# EAGLE library part PIC12F1840 (library PIC12F1840)
Microchip PIC12F1840
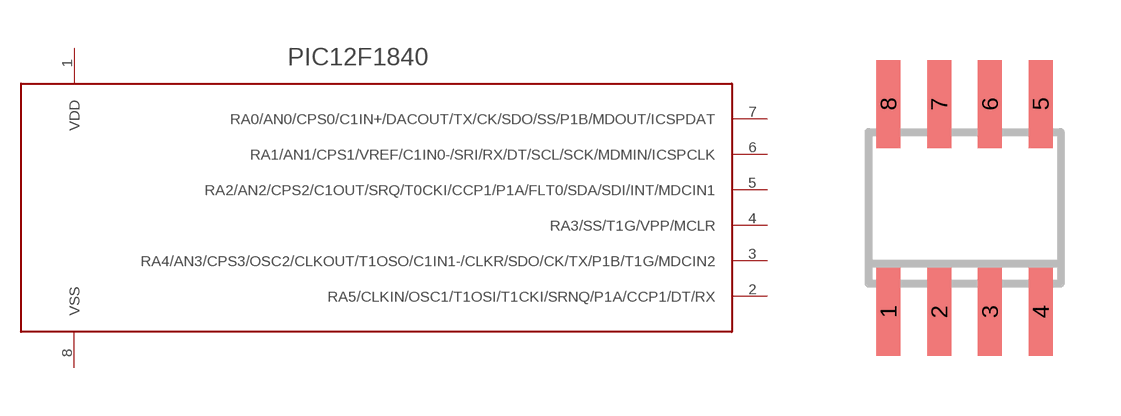
[diagram p0: symbol with the pads of SO8; footprint SO8]

Designator prefix -

## PIC12F1840  [SO8]
1  VDD  pwr
2  RA5/CLKIN/OSC1/T1OSI/T1CKI/SRNQ/P1A/CCP1/DT/RX
3  RA4/AN3/CPS3/OSC2/CLKOUT/T1OSO/C1IN1-/CLKR/SDO/CK/TX/P1B/T1G/MDCIN2
4  RA3/SS/T1G/VPP/MCLR
5  RA2/AN2/CPS2/C1OUT/SRQ/T0CKI/CCP1/P1A/FLT0/SDA/SDI/INT/MDCIN1
6  RA1/AN1/CPS1/VREF/C1IN0-/SRI/RX/DT/SCL/SCK/MDMIN/ICSPCLK
7  RA0/AN0/CPS0/C1IN+/DACOUT/TX/CK/SDO/SS/P1B/MDOUT/ICSPDAT
8  VSS  pwr

## Footprint SO8 (pad centres in mm)
SMALL OUTLINE INTEGRATED CIRCUIT SOP-8L Source: http://www.diodes.com/datasheets/ds31262.pdf
smd 0.6 x 2.2: 1 -1.905,-2.6; 2 -0.635,-2.6; 3 0.635,-2.6; 4 1.905,-2.6; 5 1.905,2.6; 6 0.635,2.6; 7 -0.635,2.6; 8 -1.905,2.6